# EAGLE library part BREAKOUT9 (library connectors)
9-pins breakout connector Lieven Hollevoet
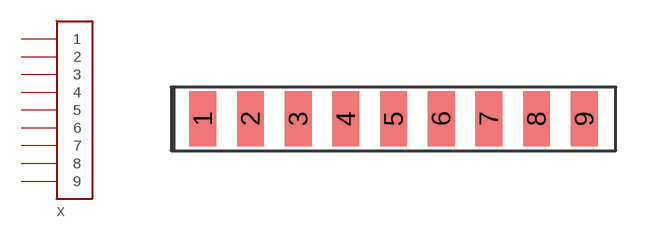
[diagram p0: symbol with the pads of BREAKOUT9; footprint BREAKOUT9]

Designator prefix X

## BREAKOUT9  [BREAKOUT9]
1  1
2  2
3  3
4  4
5  5
6  6
7  7
8  8
9  9

## Footprint BREAKOUT9 (pad centres in mm)
9-pins breakout connector SMD style
smd 1.067 x 2.184: 1 -7.62,0; 2 -5.715,0; 3 -3.81,0; 4 -1.905,0; 5 0,0; 6 1.905,0; 7 3.81,0; 8 5.715,0; 9 7.62,0